# Altium footprint library PowerPAK SO-8L Single.PcbLib: 1 footprints
Each footprint in its own frame and in the unit in brackets; x right, y up, seen from the top. Pads: shape width x height; smd on the part's side, far side on the other; paste and mask are expansions set on the pad; w line width, h text height; cw(c..) or ccw(c..) is an arc to the next point about the centre after c.
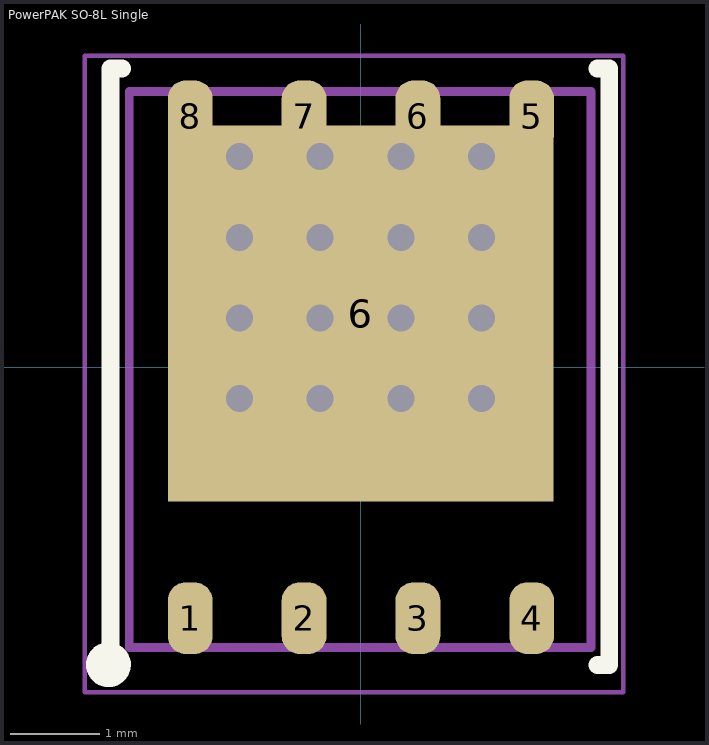
[diagram p0: the footprint, top view; thin cyan lines are the x and y axes]

## PowerPAK SO-8L Single [mm] "PQFN, 8-Leads, Body 3.30x3.33mm, Pitch 0.65mm, Thermal Pad 2.34x1.80mm, IPC Medium Density"
height 1.05
pads (9):
  rrect80% 0.5x0.8 smd paste-0.01 mask+0.05: 1(-1.905,-2.8) 2(-0.635,-2.8) 3(0.635,-2.8) 4(1.905,-2.8) 5(1.905,2.8) 6(0.635,2.8) 7(-0.635,2.8) 8(-1.905,2.8)
  rect 4.3x4.2 smd paste-3 mask+0.05: 6(0,0.6)
via 1.345,2.35 diameter 0.6 hole 0.3
via 0.445,2.35 diameter 0.6 hole 0.3
via -0.455,2.35 diameter 0.6 hole 0.3
via -1.355,2.35 diameter 0.6 hole 0.3
via 1.345,1.45 diameter 0.6 hole 0.3
via 0.445,1.45 diameter 0.6 hole 0.3
via -0.455,1.45 diameter 0.6 hole 0.3
via -1.355,1.45 diameter 0.6 hole 0.3
via 1.345,0.55 diameter 0.6 hole 0.3
via 0.445,0.55 diameter 0.6 hole 0.3
via -0.455,0.55 diameter 0.6 hole 0.3
via -1.355,0.55 diameter 0.6 hole 0.3
via 1.345,-0.35 diameter 0.6 hole 0.3
via 0.445,-0.35 diameter 0.6 hole 0.3
via -0.455,-0.35 diameter 0.6 hole 0.3
via -1.355,-0.35 diameter 0.6 hole 0.3
Top Overlay:
  circle w0.25: c-2.818,-3.318 r0.125
  lines w0.2: -2.665,-3.297 -2.795,-3.297 -2.795,3.333 -2.665,3.333 ; 2.64,-3.322 2.77,-3.322 2.77,0.12 ; 2.64,3.333 2.77,3.333 ; 2.77,-1.327 2.77,3.325
Top Paste:
  region: -1.927,2.495 -1.927,1.895 -0.127,1.895 -0.127,2.495
  region: -0.128,1.03 -0.128,1.63 -1.928,1.63 -1.928,1.03
  region: 1.92,1.03 1.92,1.63 0.126,1.63 0.126,1.03
  region: 0.126,2.495 0.126,1.895 1.92,1.895 1.92,2.495
  region: -0.128,0.164 -0.128,0.764 -1.928,0.764 -1.928,0.164
  region: 1.92,0.164 1.92,0.764 0.126,0.764 0.126,0.164
  region: -0.128,-0.702 -0.128,-0.102 -1.928,-0.102 -1.928,-0.702
  region: 1.92,-0.702 1.92,-0.102 0.126,-0.102 0.126,-0.702
Top Courtyard:
  lines w0.05: -3.08,-3.625 2.925,-3.625 2.925,3.475 -3.08,3.475 -3.08,-3.625
  lines w0.1: -0.5,0 0.5,0 ; 0,-0.5 0,0.5
Top Assembly:
  lines w0.1: -2.585,-3.125 2.565,-3.125 2.565,3.075 -2.585,3.075 -2.585,-3.125
3D body "User Library-PowerPAK SO-8 (S).step": height 1.04, standoff 0, extent -2.575,-3.075 2.575,3.075